# Altium footprint library 2.02-SSOP&MSOP封装.PcbLib: 28 footprints (part 1 of 2)
Each footprint in its own frame and in the unit in brackets; x right, y up, seen from the top. Pads: shape width x height; smd on the part's side, far side on the other; paste and mask are expansions set on the pad; w line width, h text height; cw(c..) or ccw(c..) is an arc to the next point about the centre after c.
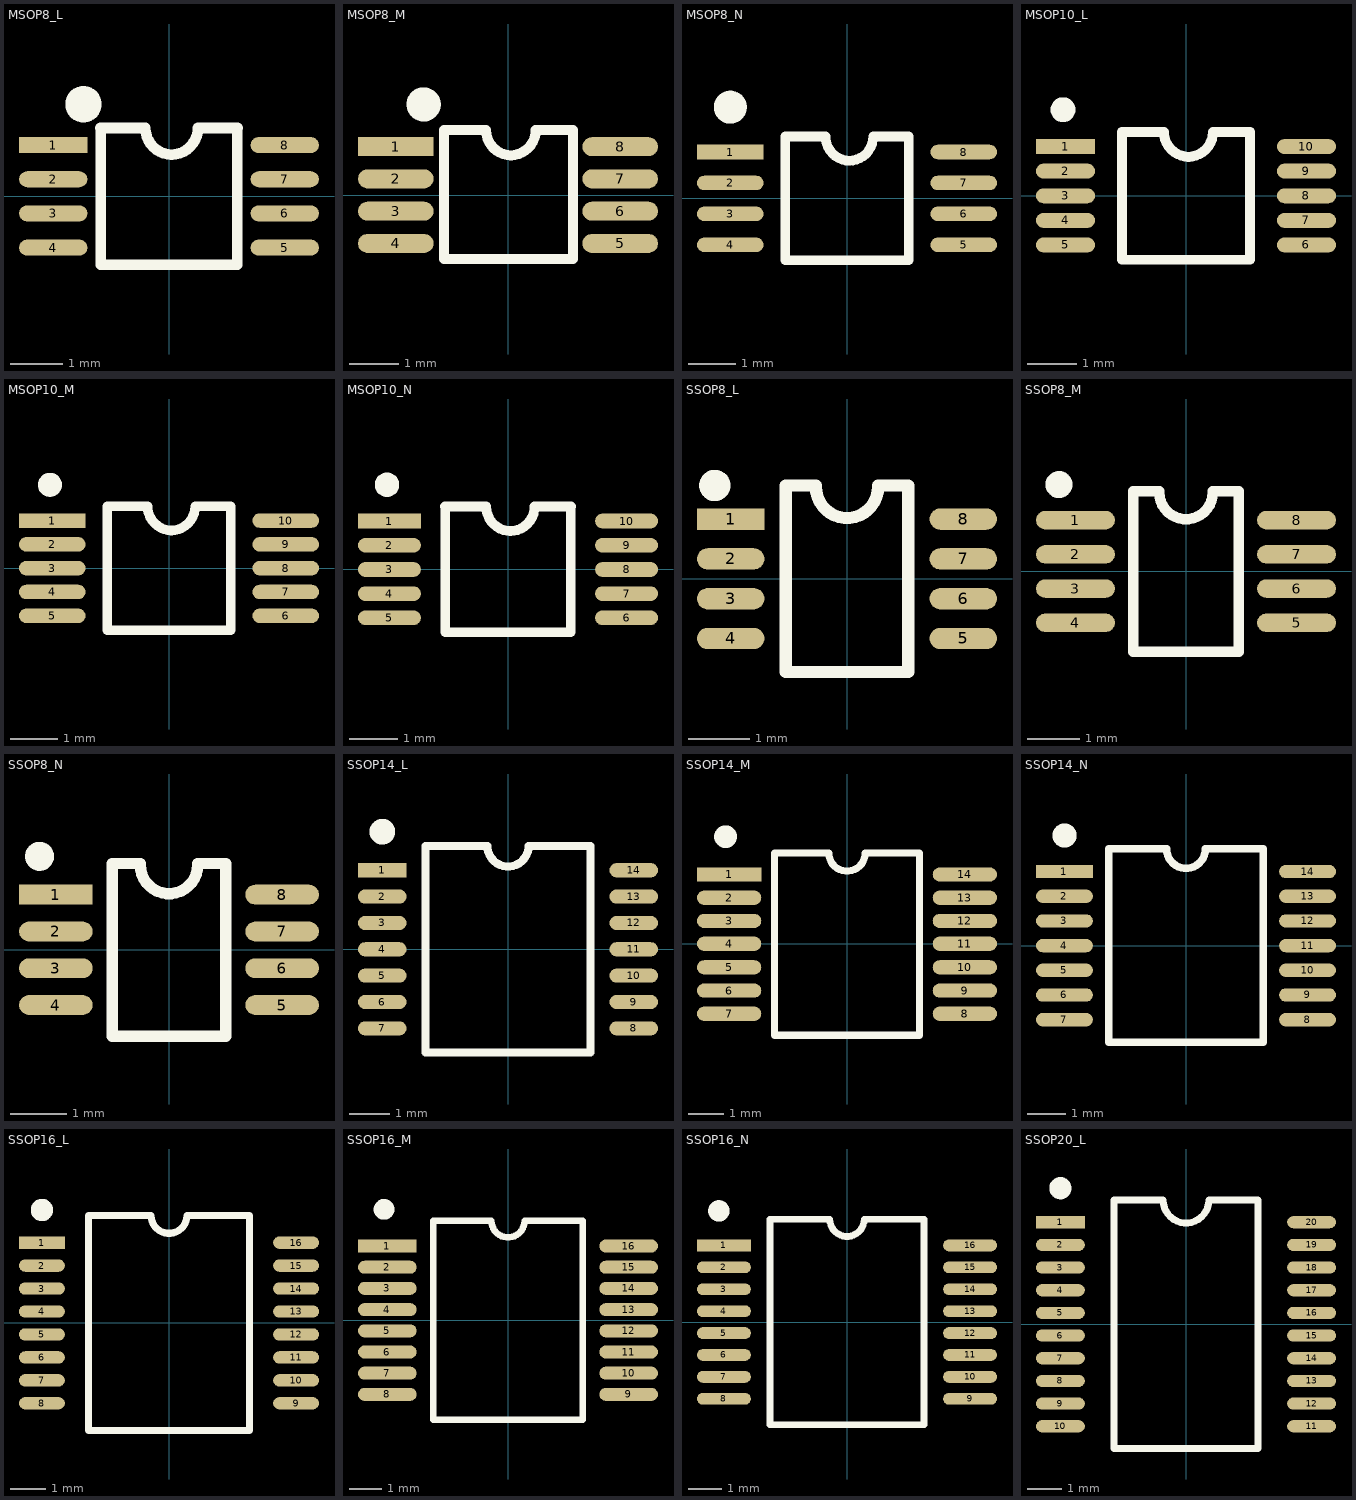
[diagram p0: the footprints below, top view; thin cyan lines are the x and y axes]

## MSOP8_L [mm] "塑封体长3mm，宽3mm，脚距0.65          淘宝ID:黄晶宝石"
pads (8):
  rect 1.3x0.305 smd: 1(-2.2,0.975)
  oval 1.3x0.305 smd: 2(-2.2,0.325) 3(-2.2,-0.325) 4(-2.2,-0.975) 5(2.2,-0.975) 6(2.2,-0.325) 7(2.2,0.325) 8(2.2,0.975)
Top Overlay:
  circle w0.381: c-1.625,1.75 r0.155
  lines w0.2: -1.3,1.3 -1.3,-1.3 1.3,-1.3 1.3,1.3
  lines w0.203: -1.3,1.3 -0.46,1.3 ; -0.45,1.3 ccw(c0.058,1.3) 0.058,0.792 ; 0.042,0.792 ccw(c0.042,1.3) 0.55,1.3 ; 0.556,1.3 1.3,1.3
3D body "MSOP-8.STEP": height 0.95, standoff 0, extent -2.45,-1.5 2.45,1.5

## MSOP8_M [mil] "塑封体长3mm，宽3mm，脚距0.65          淘宝ID:黄晶宝石"
pads (8):
  rect 60x15 smd: 1(-89,38.39)
  oval 60x15 smd: 2(-89,12.8) 3(-89,-12.8) 4(-89,-38.39) 5(89,-38.39) 6(89,-12.8) 7(89,12.8) 8(89,38.39)
Top Overlay:
  circle w15: c-66.93,71.85 r6.08
  lines w7.87: -50.87,51.5 -50.87,-50.87 51.5,-50.87 51.5,51.5
  lines w8: -50.87,51.5 -17.8,51.5 ; -17.4,51.5 ccw(c2.6,51.5) 2.6,31.5 ; 1.97,31.5 ccw(c1.97,51.5) 21.97,51.5 ; 22.2,51.5 51.5,51.5
3D body "MSOP-8.STEP": height 37.4, standoff 0, extent -96.45,-59.06 96.47,59.05

## MSOP8_N [mm] "塑封体长3mm，宽3mm，脚距0.65     淘宝ID:黄晶宝石"
pads (8):
  rect 1.4x0.305 smd: 1(-2.45,0.975)
  oval 1.4x0.305 smd: 2(-2.45,0.325) 3(-2.45,-0.325) 4(-2.45,-0.975) 5(2.45,-0.975) 6(2.45,-0.325) 7(2.45,0.325) 8(2.45,0.975)
Top Overlay:
  circle w0.381: c-2.45,1.917 r0.155
  lines w0.2: -1.3,1.3 -1.3,-1.3 1.3,-1.3 1.3,1.3
  lines w0.203: -1.3,1.3 -0.46,1.3 ; -0.45,1.3 ccw(c0.058,1.3) 0.058,0.792 ; 0.042,0.792 ccw(c0.042,1.3) 0.55,1.3 ; 0.556,1.3 1.3,1.3
3D body "MSOP-8.STEP": height 0.95, standoff 0, extent -2.45,-1.5 2.45,1.5

## MSOP10_L [mm] "塑封体长3mm，宽3mm，脚距0.5"
pads (10):
  rect 1.2x0.305 smd: 1(-2.45,1)
  oval 1.2x0.305 smd: 2(-2.45,0.5) 3(-2.45,0) 4(-2.45,-0.5) 5(-2.45,-1) 6(2.45,-1) 7(2.45,-0.5) 8(2.45,0) 9(2.45,0.5) 10(2.45,1)
Top Overlay:
  lines w0.2: -1.3,1.3 -1.3,-1.3 1.3,-1.3 1.3,1.3
  lines w0.203: -1.3,1.3 -0.46,1.3 ; -0.45,1.3 ccw(c0.058,1.3) 0.058,0.792 ; 0.042,0.792 ccw(c0.042,1.3) 0.55,1.3 ; 0.556,1.3 1.3,1.3
  lines w0.254: -2.375,1.749 cw(c-2.5,1.75) -2.375,1.751
3D body "MSOP-10.STEP": height 0.95, standoff 0, extent -2.45,-1.5 2.45,1.5

## MSOP10_M [mm] "塑封体长3mm，宽3mm，脚距0.5mm      淘宝ID:黄晶宝石"
pads (10):
  rect 1.4x0.305 smd: 1(-2.45,1)
  oval 1.4x0.305 smd: 2(-2.45,0.5) 3(-2.45,0) 4(-2.45,-0.5) 5(-2.45,-1) 6(2.45,-1) 7(2.45,-0.5) 8(2.45,0) 9(2.45,0.5) 10(2.45,1)
Top Overlay:
  lines w0.2: -1.3,1.3 -1.3,-1.3 1.3,-1.3 1.3,1.3
  lines w0.203: -1.3,1.3 -0.46,1.3 ; -0.45,1.3 ccw(c0.058,1.3) 0.058,0.792 ; 0.042,0.792 ccw(c0.042,1.3) 0.55,1.3 ; 0.556,1.3 1.3,1.3
  lines w0.254: -2.375,1.749 cw(c-2.5,1.75) -2.375,1.751
3D body "MSOP-10.STEP": height 0.95, standoff 0, extent -2.45,-1.5 2.45,1.5

## MSOP10_N [mm] "塑封体长3mm，宽3mm，脚距0.5MM   淘宝ID:黄晶宝石"
pads (10):
  rect 1.3x0.305 smd: 1(-2.45,1)
  oval 1.3x0.305 smd: 2(-2.45,0.5) 3(-2.45,0) 4(-2.45,-0.5) 5(-2.45,-1) 6(2.45,-1) 7(2.45,-0.5) 8(2.45,0) 9(2.45,0.5) 10(2.45,1)
Top Overlay:
  lines w0.2: -1.3,1.3 -1.3,-1.3 1.3,-1.3 1.3,1.3
  lines w0.203: -1.3,1.3 -0.46,1.3 ; -0.45,1.3 ccw(c0.058,1.3) 0.058,0.792 ; 0.042,0.792 ccw(c0.042,1.3) 0.55,1.3 ; 0.556,1.3 1.3,1.3
  lines w0.254: -2.375,1.749 cw(c-2.5,1.75) -2.375,1.751
3D body "MSOP-10.STEP": height 0.95, standoff 0, extent -2.45,-1.5 2.45,1.5

## SSOP8_L [mm] "SSOP-8_L3.0-W3.0-P0.65       淘宝ID:黄晶宝石"
pads (8):
  rect 1.1x0.35 smd: 1(-1.9,0.975)
  oval 1.1x0.35 smd: 2(-1.9,0.325) 3(-1.9,-0.325) 4(-1.9,-0.975) 5(1.9,-0.975) 6(1.9,-0.325) 7(1.9,0.325) 8(1.9,0.975)
Top Overlay:
  circle w0.254: c-2.159,1.524 r0.13
  lines w0.2: -0.508,1.5 ccw(c0,1.5) 0.508,1.5 ; -0.508,1.524 -1,1.524 -1,-1.524 1,-1.524 1,1.524 0.508,1.524
3D body "User Library-SSOP-8-P-0_65.STEP": height 1.2, standoff 0.05, extent -2,-1.45 2,1.45

## SSOP8_M [mm] "SSOP-8_L3.0-W3.0-P0.65       淘宝ID:黄晶宝石"
pads (8):
  oval 1.5x0.35 smd: 1(-2.1,0.975) 2(-2.1,0.325) 3(-2.1,-0.325) 4(-2.1,-0.975) 5(2.1,-0.975) 6(2.1,-0.325) 7(2.1,0.325) 8(2.1,0.975)
Top Overlay:
  circle w0.254: c-2.413,1.651 r0.13
  lines w0.2: -0.508,1.5 ccw(c0,1.5) 0.508,1.5 ; -0.508,1.524 -1,1.524 -1,-1.524 1,-1.524 1,1.524 0.508,1.524
3D body "User Library-SSOP-8-P-0_65.STEP": height 1.2, standoff 0.05, extent -2.025,-1.475 1.975,1.425

## SSOP8_N [mm] "SSOP-8_L3.0-W3.0-P0.65       淘宝ID:黄晶宝石"
pads (8):
  rect 1.3x0.35 smd: 1(-2,0.975)
  oval 1.3x0.35 smd: 2(-2,0.325) 3(-2,-0.325) 4(-2,-0.975) 5(2,-0.975) 6(2,-0.325) 7(2,0.325) 8(2,0.975)
Top Overlay:
  circle w0.254: c-2.286,1.651 r0.13
  lines w0.2: -0.508,1.5 ccw(c0,1.5) 0.508,1.5 ; -0.508,1.524 -1,1.524 -1,-1.524 1,-1.524 1,1.524 0.508,1.524
3D body "User Library-SSOP-8-P-0_65.STEP": height 1.2, standoff 0.05, extent -1.9,-1.45 2.1,1.45

## SSOP14_L [mm] "5*6.4*1.2mm（长宽高）"
height 1.1
pads (14):
  rect 1.2x0.35 smd: 1(-3.1,1.95)
  oval 1.2x0.35 smd: 2(-3.1,1.3) 3(-3.1,0.65) 4(-3.1,0) 5(-3.1,-0.65) 6(-3.1,-1.3) 7(-3.1,-1.95) 8(3.1,-1.95) 9(3.1,-1.3) 10(3.1,-0.65) 11(3.1,0) 12(3.1,0.65) 13(3.1,1.3) 14(3.1,1.95)
Top Overlay:
  circle w0.381: c-3.1,2.9 r0.127
  lines w0.2: -2.032,-2.55 2.032,-2.55 2.032,2.55 0.508,2.55 cw(c0,2.55) -0.508,2.55 -2.032,2.55 -2.032,-2.55
3D body "SSOP14.STEP": height 1.25, standoff -0.03, extent -3.202,-2.5 3.202,2.5

## SSOP14_M [mm] "5*6.4*1.2mm（长宽高）"
height 1.1
pads (14):
  rect 1.8x0.4 smd: 1(-3.3,1.94)
  oval 1.8x0.4 smd: 2(-3.3,1.29) 3(-3.3,0.64) 4(-3.3,0) 5(-3.3,-0.66) 6(-3.3,-1.31) 7(-3.3,-1.96) 8(3.3,-1.96) 9(3.3,-1.31) 10(3.3,-0.66) 11(3.3,0) 12(3.3,0.64) 13(3.3,1.29) 14(3.3,1.94)
Top Overlay:
  circle w0.381: c-3.4,3 r0.127
  lines w0.2: -2.032,-2.56 -2.032,2.54 -0.508,2.54 ccw(c0,2.54) 0.508,2.54 2.032,2.54 2.032,-2.56 -2.032,-2.56
3D body "SSOP14.STEP": height 1.25, standoff -0.03, extent -3.202,-2.5 3.202,2.5

## SSOP14_N [mm] "5*6.4*1.2mm（长宽高）"
height 1.1
pads (14):
  rect 1.5x0.35 smd: 1(-3.2,1.95)
  oval 1.5x0.35 smd: 2(-3.2,1.3) 3(-3.2,0.65) 4(-3.2,0) 5(-3.2,-0.65) 6(-3.2,-1.3) 7(-3.2,-1.95) 8(3.2,-1.95) 9(3.2,-1.3) 10(3.2,-0.65) 11(3.2,0) 12(3.2,0.65) 13(3.2,1.3) 14(3.2,1.95)
Top Overlay:
  circle w0.381: c-3.2,2.9 r0.127
  lines w0.2: -2.032,-2.55 2.032,-2.55 2.032,2.55 0.508,2.55 cw(c0,2.54) -0.508,2.55 -2.032,2.55 -2.032,-2.55
3D body "SSOP14.STEP": height 1.25, standoff -0.03, extent -3.202,-2.5 3.202,2.5

## SSOP16_L [mm] "6.3*7.7*1.6mm（长宽高）"
pads (16):
  rect 1.3x0.35 smd: 1(-3.6,2.275)
  oval 1.3x0.35 smd: 2(-3.6,1.625) 3(-3.6,0.975) 4(-3.6,0.325) 5(-3.6,-0.325) 6(-3.6,-0.975) 7(-3.6,-1.625) 8(-3.6,-2.275) 9(3.6,-2.275) 10(3.6,-1.625) 11(3.6,-0.975) 12(3.6,-0.325) 13(3.6,0.325) 14(3.6,0.975) 15(3.6,1.625) 16(3.6,2.275)
Top Overlay:
  circle w0.381: c-3.6,3.2 r0.127
  lines w0.2: -2.286,-3.048 -2.286,3.048 -0.508,3.048 ccw(c0,3.048) 0.508,3.048 2.286,3.048 2.286,-3.048 -2.286,-3.048
3D body "SSOP16.STEP": height 1.65, standoff -0.03, extent -3.852,-3.1 3.852,3.1

## SSOP16_M [mm] "6.3*7.7*1.6mm（长宽高）"
pads (16):
  rect 1.8x0.4 smd: 1(-3.7,2.275)
  oval 1.8x0.4 smd: 2(-3.7,1.625) 3(-3.7,0.975) 4(-3.7,0.325) 5(-3.7,-0.325) 6(-3.7,-0.975) 7(-3.7,-1.625) 8(-3.7,-2.275) 9(3.7,-2.275) 10(3.7,-1.625) 11(3.7,-0.975) 12(3.7,-0.325) 13(3.7,0.325) 14(3.7,0.975) 15(3.7,1.625) 16(3.7,2.275)
Top Overlay:
  circle w0.381: c-3.8,3.4 r0.127
  lines w0.2: -2.286,-3.048 2.286,-3.048 2.286,3.048 0.508,3.048 cw(c0,3.048) -0.508,3.048 -2.286,3.048 -2.286,-3.048
3D body "SSOP16.STEP": height 1.65, standoff -0.03, extent -3.852,-3.1 3.852,3.1

## SSOP16_N [mm] "6.3*7.7*1.6mm（长宽高）"
pads (16):
  rect 1.6x0.35 smd: 1(-3.65,2.275)
  oval 1.6x0.35 smd: 2(-3.65,1.625) 3(-3.65,0.975) 4(-3.65,0.325) 5(-3.65,-0.325) 6(-3.65,-0.975) 7(-3.65,-1.625) 8(-3.65,-2.275) 9(3.65,-2.275) 10(3.65,-1.625) 11(3.65,-0.975) 12(3.65,-0.325) 13(3.65,0.325) 14(3.65,0.975) 15(3.65,1.625) 16(3.65,2.275)
Top Overlay:
  circle w0.381: c-3.8,3.3 r0.127
  lines w0.2: -2.286,-3.048 2.286,-3.048 2.286,3.048 0.508,3.048 cw(c0,3.048) -0.508,3.048 -2.286,3.048 -2.286,-3.048
3D body "SSOP16.STEP": height 1.65, standoff -0.03, extent -3.852,-3.1 3.852,3.1

## SSOP20_L [mm] "7.2*7.8*1.6（长宽高）"
pads (20):
  rect 1.4x0.35 smd: 1(-3.6,2.925)
  oval 1.4x0.35 smd: 2(-3.6,2.275) 3(-3.6,1.625) 4(-3.6,0.975) 5(-3.6,0.325) 6(-3.6,-0.325) 7(-3.6,-0.975) 8(-3.6,-1.625) 9(-3.6,-2.275) 10(-3.6,-2.925) 11(3.6,-2.925) 12(3.6,-2.275) 13(3.6,-1.625) 14(3.6,-0.975) 15(3.6,-0.325) 16(3.6,0.325) 17(3.6,0.975) 18(3.6,1.625) 19(3.6,2.275) 20(3.6,2.925)
Top Overlay:
  circle w0.381: c-3.6,3.9 r0.127
  lines w0.2: -2.065,-3.556 -2.065,3.556 -0.655,3.556 ccw(c0,3.556) 0.655,3.556 2.065,3.556 2.065,-3.556 -2.065,-3.556
3D body "SSOP20.STEP": height 1.65, standoff -0.03, extent -3.852,-3.6 3.852,3.6